# Altium schematic symbol library ESDA7P120-1U1M.SchLib: 1 symbol
Pins are listed as number, name and electrical type; pins without a type are passive.

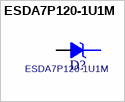
[diagram p0: symbol ESDA7P120-1U1M]

## ESDA7P120-1U1M
designator D?
footprint ST_1610
pins: 1 K, 2 A